# EAGLE library part NB3N551 (library clock)
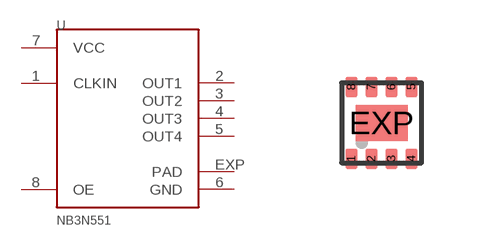
[diagram p5: symbol with the pads of DFN8-3X3; footprint DFN8-3X3]

Designator prefix -

## NB3N551  [DFN8-3X3]
1  CLKIN
2  OUT1
3  OUT2
4  OUT3
5  OUT4
6  GND
7  VCC
8  OE
EXP  PAD

## Footprint DFN8-3X3 (pad centres in mm)
DD Package 8-Lead Plastic DFN (3mm × 3mm) Source: http://cds.linear.com/docs/Datasheet/623012fb.pdf
smd 0.3 x 0.5: 1 -0.75,-0.9; 2 -0.25,-0.9; 3 0.25,-0.9; 4 0.75,-0.9; 5 0.75,0.9; 6 0.25,0.9; 7 -0.25,0.9; 8 -0.75,0.9
smd 1.3 x 0.9: EXP 0,0